# Altium schematic symbol library Generic-Schematic-Library.SchLib: 13 symbols
Pins are listed as number, name and electrical type; pins without a type are passive.

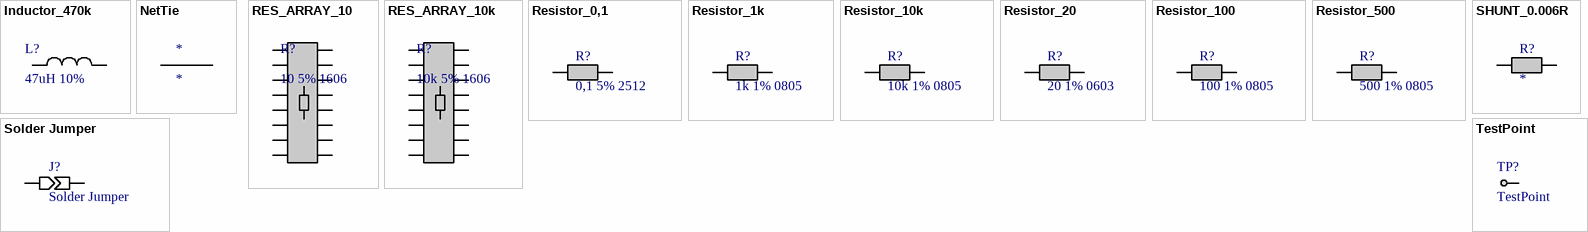
[diagram p0: symbols Inductor_470k to TestPoint]

## Inductor_470k
designator L?, comment 47uH 10%
footprint INDUCTOR 9MM
pins: 1, 2

## NetTie
designator *  (net tie, no BOM)
footprint NetTie
pins: 1, 2

## RES_ARRAY_10
designator R?, comment 10 5% 1606
footprint RES Array (Chip Array, Flat, 16-Leads, Pitch 0,50mm,  Body 4,00x1,60mm,  IPC Medium Density)
pins: 1, 2, 3, 4, 5, 6, 7, 8, 9, 10, 11, 12, 13, 14, 15, 16

## RES_ARRAY_10k
designator R?, comment 10k 5% 1606
footprint RES Array (Chip Array, Flat, 16-Leads, Pitch 0,50mm,  Body 4,00x1,60mm,  IPC Medium Density)
pins: 1, 2, 3, 4, 5, 6, 7, 8, 9, 10, 11, 12, 13, 14, 15, 16

## Resistor_0,1
designator R?, comment 0,1 5% 2512
Resistor 0,1 Ohm 5% SMD 2512 Generic; Tolerance: 1%; Value: 10k; Package size: 0805
footprint RES_2512 (Chip Resistor, 2-Leads, Body 6,35x3,10mm, IPC Medium Density)
pins: 1, 2

## Resistor_1k
designator R?, comment 1k 1% 0805
Resistor 1kOhm 1% SMD 0805 Generic; Package size: 0805; Tolerance: 1%; Value: 1k
footprint RES_0805 (Chip Resistor, 2-Leads, Body 2,00x1,25mm, IPC Medium Density)
pins: 1, 2

## Resistor_10k
designator R?, comment 10k 1% 0805
Resistor 10kOhm 1% SMD 0805 Generic; Package size: 0805; Tolerance: 1%; Value: 10k
footprint RES_0805 (Chip Resistor, 2-Leads, Body 2,00x1,25mm, IPC Medium Density)
pins: 1, 2

## Resistor_20
designator R?, comment 20 1% 0603
Resistor 20Ohm 1% SMD 0603 Generic; Value: 20; Package size: 0805; Tolerance: 1%
footprint RES_0603 (Chip Resistor, 2-Leads, Body 0603)
pins: 1, 2

## Resistor_100
designator R?, comment 100 1% 0805
Resistor 100Ohm 1% SMD 0805 Generic; Value: 100; Package size: 0805; Tolerance: 1%
footprint RES_0805 (Chip Resistor, 2-Leads, Body 2,00x1,25mm, IPC Medium Density)
pins: 1, 2

## Resistor_500
designator R?, comment 500 1% 0805
Resistor 500Ohm 1% SMD 0805 Generic; Value: 500; Package size: 0805; Tolerance: 1%
footprint RES_0805 (Chip Resistor, 2-Leads, Body 2,00x1,25mm, IPC Medium Density)
pins: 1, 2

## SHUNT_0.006R
designator R?
footprint SHUNT
pins: 1, 2

## Solder Jumper
designator J?
footprint NO Solder Jumper (Solder Jumper)
footprint Solder Jumper - duplicate (Solder Jumper)
pins: 1, 2

## TestPoint
designator TP?
footprint TestPoint
pins: 1